# EAGLE library part PINHD-12 (library m_connector)
12 Pin Header
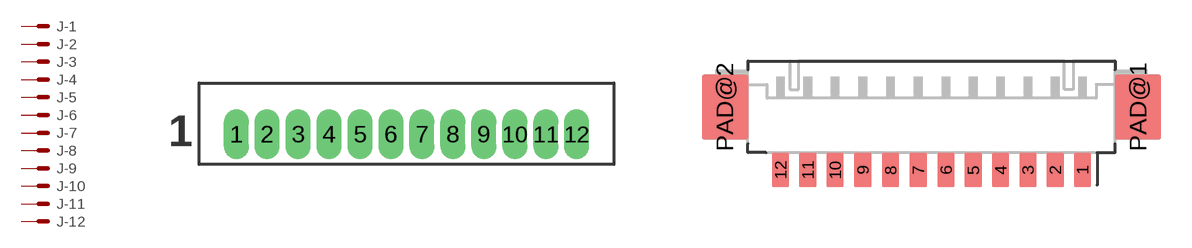
[diagram p18: symbol with the pads of MOLEX_53047-1210; footprints MOLEX_53047-1210, MOLEX_53261-1271]

Designator prefix J; gates -1=M -2=M -3=M -4=M -5=M -6=M -7=M -8=M -9=M -10=M -11=M -12=M

## PINHD-12MOLEX-PICOBLADE (MANUF: Molex; PARTNUM: 53047-1210)  [MOLEX_53047-1210]
1  -1:S  pas
2  -2:S  pas
3  -3:S  pas
4  -4:S  pas
5  -5:S  pas
6  -6:S  pas
7  -7:S  pas
8  -8:S  pas
9  -9:S  pas
10  -10:S  pas
11  -11:S  pas
12  -12:S  pas

## PINHD-12MOLEX-PICOBLADE_SMT_HORIZONTAL (MANUF: Molex; PARTNUM: 53261-1271)  [MOLEX_53261-1271]
Pads as for MOLEX_53047-1210

## PINHD-12MOLEX-PICOBLADE_SMT_VERTICAL (MANUF: Molex; PARTNUM: 53398-1271)  [MOLEX_53398-1271]
Pads as for MOLEX_53047-1210

## Footprint MOLEX_53047-1210 (pad centres in mm)
Molex 53047 Series, 1.25mm Pitch, 12 Conductor Molex 1.25mm pitch through hole connector. Pre tinned phosphor bronze pins, mates with 51021 series.
drill 0.5 long: 1 -6.875,0; 2 -5.625,0; 3 -4.375,0; 4 -3.125,0; 5 -1.875,0; 6 -0.625,0; 7 0.625,0; 8 1.875,0; 9 3.125,0; 10 4.375,0; 11 5.625,0; 12 6.875,0

## Footprint MOLEX_53261-1271 (pad centres in mm)
Molex 53261 Series PicoBlade, 1.25mm Pitch, Right Angle, SMT, 12 Conductor Molex 1.25mm pitch right angle SMT connector. Pre tinned phosphor bronze pins, mates with 51021 series.
smd 0.8 x 1.6: 1 6.915,-0.8; 2 5.665,-0.8; 3 4.415,-0.8; 4 3.165,-0.8; 5 1.915,-0.8; 6 0.665,-0.8; 7 -0.605,-0.8; 8 -1.875,-0.8; 9 -3.145,-0.8; 10 -4.415,-0.8; 11 -5.665,-0.8; 12 -6.915,-0.8
smd 2.1 x 3: PAD@1 9.465,2.1; PAD@2 -9.465,2.1

## Footprint MOLEX_53398-1271 (pad centres in mm)
Molex 53398 Series PicoBlade, 1.25mm Pitch, Vertical, SMT, 12 Conductor Molex 1.25mm pitch vertical SMT connector. Pre tinned phosphor bronze pins, mates with 51021 series.
smd 0.8 x 1.3: 1 6.875,-0.65; 2 5.625,-0.65; 3 4.375,-0.65; 4 3.125,-0.65; 5 1.875,-0.65; 6 0.625,-0.65; 7 -0.625,-0.65; 8 -1.875,-0.65; 9 -3.125,-0.65; 10 -4.375,-0.65; 11 -5.625,-0.65; 12 -6.875,-0.65
smd 2.1 x 3: PAD@1 9.425,2.1; PAD@2 -9.425,2.1